# Altium schematic symbol library LED_COMC_1GRN_2COM_3RED.SchLib: 1 symbol
Pins are listed as number, name and electrical type; pins without a type are passive.

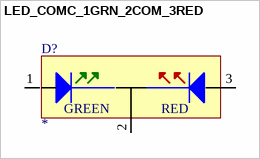
[diagram p0: symbol LED_COMC_1GRN_2COM_3RED]

## LED_COMC_1GRN_2COM_3RED
designator D?
pins: 1, 2, 3
text: GREEN; RED